# EAGLE library part SATA7 (library dan-pc)
SATA 7-pin connector From host perspective, A is transmit and B is receive.
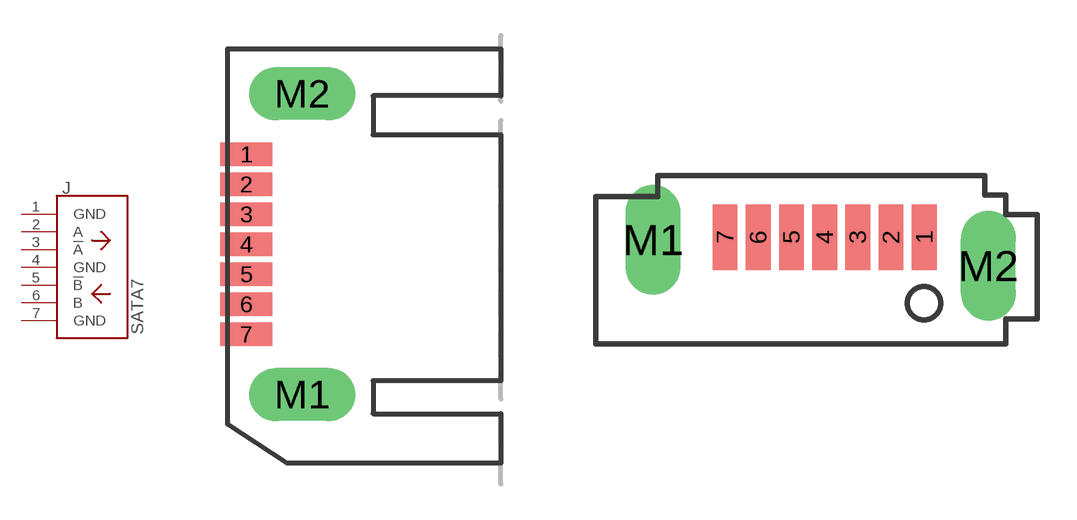
[diagram p0: symbol with the pads of SATA7-RA; footprints SATA7-RA, SATA7-VERT]

Designator prefix J

## SATA7-RA  [SATA7-RA]
1  GND  pas
2  A
3  !A
4  GND  pas
5  !B
6  B
7  GND  pas

## SATA7-VERT  [SATA7-VERT]
Pads as for SATA7-RA

## SATA7-RA-NOHOLES  [SATA7-RA-NOHOLES]
Pads as for SATA7-RA

## Footprint SATA7-RA (pad centres in mm)
SATA 7-pin connector (right-angle) e.g. Molex 67490-1220: http://www.molex.com/pdm_docs/sd/674901220_sd.pdf
smd 2.2 x 1: 1 -4.41,3.81; 2 -4.41,2.54; 3 -4.41,1.27; 4 -4.41,0; 5 -4.41,-1.27; 6 -4.41,-2.54; 7 -4.41,-3.81
drill 1.5 long: M1 -2.05,-6.37; M2 -2.05,6.37

## Footprint SATA7-VERT (pad centres in mm)
SATA 7-pin connector (vertical) e.g. Molex 67800-5005: http://www.molex.com/pdm_docs/sd/678005005_sd.pdf
smd 0.95 x 2.5: 1 3.81,0; 2 2.54,0; 3 1.27,0; 4 0,0; 5 -1.27,0; 6 -2.54,0; 7 -3.81,0
drill 1.4 long: M1 -6.56,-0.1; M2 6.27,-1.1

## Footprint SATA7-RA-NOHOLES (pad centres in mm)
SATA 7-pin right-angle connector WITHOUT mounting holes
smd 2.2 x 1: 1 -4.41,3.81; 2 -4.41,2.54; 3 -4.41,1.27; 4 -4.41,0; 5 -4.41,-1.27; 6 -4.41,-2.54; 7 -4.41,-3.81